# Altium footprint library MR26.PCBLIB: 50 footprints (part 1 of 4)
Each footprint in its own frame and in the unit in brackets; x right, y up, seen from the top. Pads: shape width x height; smd on the part's side, far side on the other; paste and mask are expansions set on the pad; w line width, h text height; cw(c..) or ccw(c..) is an arc to the next point about the centre after c.
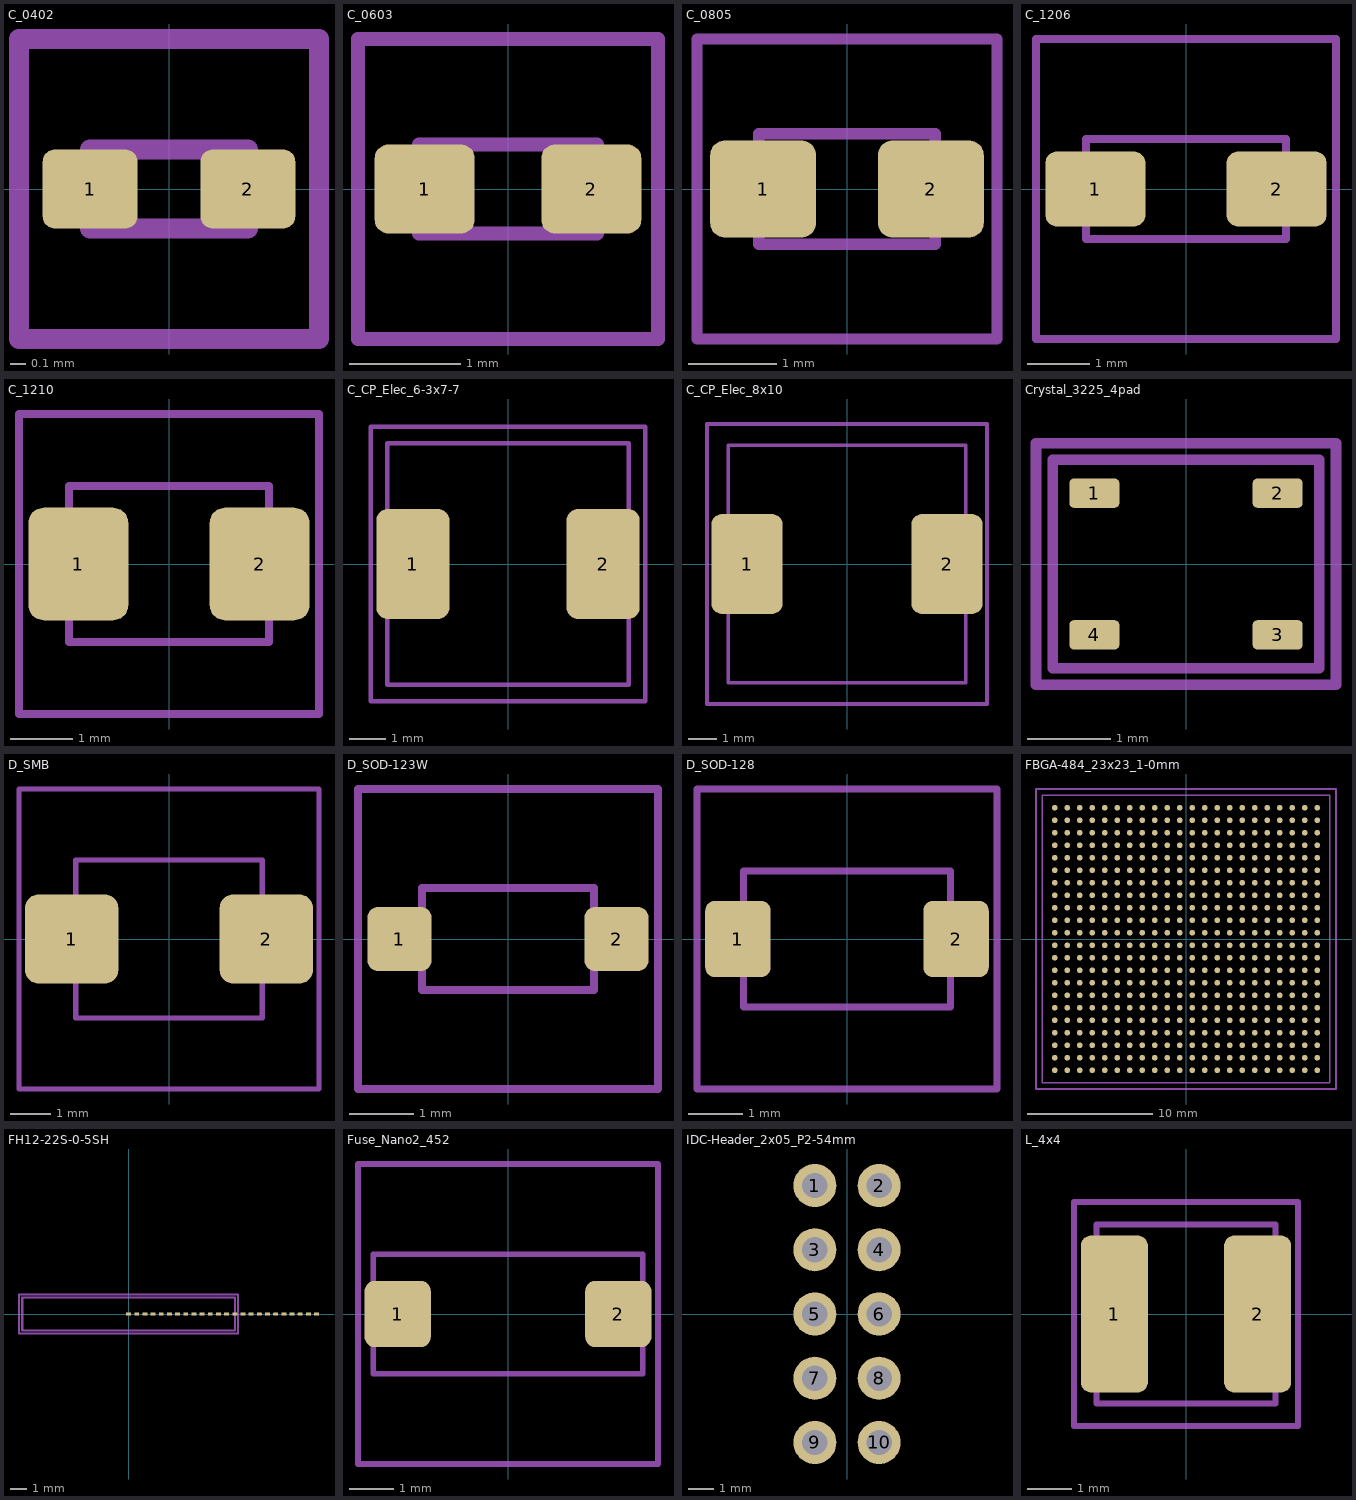
[diagram p0: the footprints below, top view; thin cyan lines are the x and y axes]

## C_0402 [mm]
pads (2):
  rrect30% 0.6x0.5 smd: 1(-0.5,0) 2(0.5,0)
tDocu:
  lines w0.127: -0.95,-0.95 0.95,-0.95 0.95,0.95 -0.95,0.95 -0.95,-0.95 ; -0.5,-0.25 0.5,-0.25 0.5,0.25 -0.5,0.25 -0.5,-0.25

## C_0603 [mil]
pads (2):
  rrect30% 35.43x31.5 smd: 1(-29.53,0) 2(29.53,0)
tDocu:
  lines w5: -53.15,-53.15 53.15,-53.15 53.15,53.15 -53.15,53.15 -53.15,-53.15 ; -31.5,-15.75 31.5,-15.75 31.5,15.75 -31.5,15.75 -31.5,-15.75

## C_0805 [mm]
pads (2):
  rrect30% 1.2x1.1 smd: 1(-0.95,0) 2(0.95,0)
tDocu:
  lines w0.127: -1.7,-1.7 1.7,-1.7 1.7,1.7 -1.7,1.7 -1.7,-1.7 ; -1,-0.625 1,-0.625 1,0.625 -1,0.625 -1,-0.625

## C_1206 [mm]
pads (2):
  rrect30% 1.6x1.2 smd: 1(-1.45,0) 2(1.45,0)
tDocu:
  lines w0.127: -2.4,-2.4 2.4,-2.4 2.4,2.4 -2.4,2.4 -2.4,-2.4 ; -1.6,-0.8 1.6,-0.8 1.6,0.8 -1.6,0.8 -1.6,-0.8

## C_1210 [mm]
pads (2):
  rrect30% 1.6x1.8 smd: 1(-1.45,0) 2(1.45,0)
tDocu:
  lines w0.127: -2.4,-2.4 2.4,-2.4 2.4,2.4 -2.4,2.4 -2.4,-2.4 ; -1.6,-1.25 1.6,-1.25 1.6,1.25 -1.6,1.25 -1.6,-1.25

## C_CP_Elec_6-3x7-7 [mm]
pads (2):
  rrect30% 2x3 smd: 1(-2.6,0) 2(2.6,0)
tDocu:
  lines w0.127: -3.75,-3.75 3.75,-3.75 3.75,3.75 -3.75,3.75 -3.75,-3.75 ; -3.3,-3.3 3.3,-3.3 3.3,3.3 -3.3,3.3 -3.3,-3.3

## C_CP_Elec_8x10 [mm]
pads (2):
  rrect30% 2.5x3.5 smd: 1(-3.5,0) 2(3.5,0)
tDocu:
  lines w0.127: -4.9,-4.9 4.9,-4.9 4.9,4.9 -4.9,4.9 -4.9,-4.9 ; -4.15,-4.15 4.15,-4.15 4.15,4.15 -4.15,4.15 -4.15,-4.15

## Crystal_3225_4pad [mm]
pads (4):
  rrect30% 0.6x0.35 smd: 1(-1.1,0.85) 2(1.1,0.85) 3(1.1,-0.85) 4(-1.1,-0.85)
tDocu:
  lines w0.127: -1.8,-1.45 1.8,-1.45 1.8,1.45 -1.8,1.45 -1.8,-1.45 ; -1.6,-1.25 1.6,-1.25 1.6,1.25 -1.6,1.25 -1.6,-1.25

## D_SMB [mm]
pads (2):
  rrect30% 2.3x2.2 smd: 1(-2.4,0) 2(2.4,0)
tDocu:
  lines w0.127: -3.7,-3.7 3.7,-3.7 3.7,3.7 -3.7,3.7 -3.7,-3.7 ; -2.3,-1.95 2.3,-1.95 2.3,1.95 -2.3,1.95 -2.3,-1.95

## D_SOD-123W [mm]
pads (2):
  rrect30% 1x1 smd: 1(-1.7,0) 2(1.7,0)
tDocu:
  lines w0.127: -2.35,-2.35 2.35,-2.35 2.35,2.35 -2.35,2.35 -2.35,-2.35 ; -1.35,-0.8 1.35,-0.8 1.35,0.8 -1.35,0.8 -1.35,-0.8

## D_SOD-128 [mm]
pads (2):
  rrect30% 1.2x1.4 smd: 1(-2,0) 2(2,0)
tDocu:
  lines w0.127: -2.75,-2.75 2.75,-2.75 2.75,2.75 -2.75,2.75 -2.75,-2.75 ; -1.9,-1.25 1.9,-1.25 1.9,1.25 -1.9,1.25 -1.9,-1.25

## FBGA-484_23x23_1-0mm [mm]
pads (484):
  rrect100% 0.45x0.45 smd: A1(-10.5,-10.5) A2(-9.5,-10.5) A3(-8.5,-10.5) A4(-7.5,-10.5) A5(-6.5,-10.5) A6(-5.5,-10.5) A7(-4.5,-10.5) A8(-3.5,-10.5) A9(-2.5,-10.5) A10(-1.5,-10.5) A11(-0.5,-10.5) A12(0.5,-10.5) A13(1.5,-10.5) A14(2.5,-10.5) A15(3.5,-10.5) A16(4.5,-10.5) A17(5.5,-10.5) A18(6.5,-10.5) A19(7.5,-10.5) A20(8.5,-10.5) A21(9.5,-10.5) A22(10.5,-10.5) AA1(-10.5,9.5) AA2(-9.5,9.5) AA3(-8.5,9.5) AA4(-7.5,9.5) AA5(-6.5,9.5) AA6(-5.5,9.5) AA7(-4.5,9.5) AA8(-3.5,9.5) AA9(-2.5,9.5) AA10(-1.5,9.5) AA11(-0.5,9.5) AA12(0.5,9.5) AA13(1.5,9.5) AA14(2.5,9.5) AA15(3.5,9.5) AA16(4.5,9.5) AA17(5.5,9.5) AA18(6.5,9.5) AA19(7.5,9.5) AA20(8.5,9.5) AA21(9.5,9.5) AA22(10.5,9.5) AB1(-10.5,10.5) AB2(-9.5,10.5) AB3(-8.5,10.5) AB4(-7.5,10.5) AB5(-6.5,10.5) AB6(-5.5,10.5) AB7(-4.5,10.5) AB8(-3.5,10.5) AB9(-2.5,10.5) AB10(-1.5,10.5) AB11(-0.5,10.5) AB12(0.5,10.5) AB13(1.5,10.5) AB14(2.5,10.5) AB15(3.5,10.5) AB16(4.5,10.5) AB17(5.5,10.5) AB18(6.5,10.5) AB19(7.5,10.5) AB20(8.5,10.5) AB21(9.5,10.5) AB22(10.5,10.5) B1(-10.5,-9.5) B2(-9.5,-9.5) B3(-8.5,-9.5) B4(-7.5,-9.5) B5(-6.5,-9.5) B6(-5.5,-9.5) B7(-4.5,-9.5) B8(-3.5,-9.5) B9(-2.5,-9.5) B10(-1.5,-9.5) B11(-0.5,-9.5) B12(0.5,-9.5) B13(1.5,-9.5) B14(2.5,-9.5) B15(3.5,-9.5) B16(4.5,-9.5) B17(5.5,-9.5) B18(6.5,-9.5) B19(7.5,-9.5) B20(8.5,-9.5) B21(9.5,-9.5) B22(10.5,-9.5) C1(-10.5,-8.5) C2(-9.5,-8.5) C3(-8.5,-8.5) C4(-7.5,-8.5) C5(-6.5,-8.5) C6(-5.5,-8.5) C7(-4.5,-8.5) C8(-3.5,-8.5) C9(-2.5,-8.5) C10(-1.5,-8.5) C11(-0.5,-8.5) C12(0.5,-8.5) C13(1.5,-8.5) C14(2.5,-8.5) C15(3.5,-8.5) C16(4.5,-8.5) C17(5.5,-8.5) C18(6.5,-8.5) C19(7.5,-8.5) C20(8.5,-8.5) C21(9.5,-8.5) C22(10.5,-8.5) D1(-10.5,-7.5) D2(-9.5,-7.5) D3(-8.5,-7.5) D4(-7.5,-7.5) D5(-6.5,-7.5) D6(-5.5,-7.5) D7(-4.5,-7.5) D8(-3.5,-7.5) D9(-2.5,-7.5) D10(-1.5,-7.5) D11(-0.5,-7.5) D12(0.5,-7.5) D13(1.5,-7.5) D14(2.5,-7.5) D15(3.5,-7.5) D16(4.5,-7.5) D17(5.5,-7.5) D18(6.5,-7.5) D19(7.5,-7.5) D20(8.5,-7.5) D21(9.5,-7.5) D22(10.5,-7.5) E1(-10.5,-6.5) E2(-9.5,-6.5) E3(-8.5,-6.5) E4(-7.5,-6.5) E5(-6.5,-6.5) E6(-5.5,-6.5) E7(-4.5,-6.5) E8(-3.5,-6.5) E9(-2.5,-6.5) E10(-1.5,-6.5) E11(-0.5,-6.5) E12(0.5,-6.5) E13(1.5,-6.5) E14(2.5,-6.5) E15(3.5,-6.5) E16(4.5,-6.5) E17(5.5,-6.5) E18(6.5,-6.5) E19(7.5,-6.5) E20(8.5,-6.5) E21(9.5,-6.5) E22(10.5,-6.5) F1(-10.5,-5.5) F2(-9.5,-5.5) F3(-8.5,-5.5) F4(-7.5,-5.5) F5(-6.5,-5.5) F6(-5.5,-5.5) F7(-4.5,-5.5) F8(-3.5,-5.5) F9(-2.5,-5.5) F10(-1.5,-5.5) F11(-0.5,-5.5) F12(0.5,-5.5) F13(1.5,-5.5) F14(2.5,-5.5) F15(3.5,-5.5) F16(4.5,-5.5) F17(5.5,-5.5) F18(6.5,-5.5) F19(7.5,-5.5) F20(8.5,-5.5) F21(9.5,-5.5) F22(10.5,-5.5) G1(-10.5,-4.5) G2(-9.5,-4.5) G3(-8.5,-4.5) G4(-7.5,-4.5) G5(-6.5,-4.5) G6(-5.5,-4.5) G7(-4.5,-4.5) G8(-3.5,-4.5) G9(-2.5,-4.5) G10(-1.5,-4.5) G11(-0.5,-4.5) G12(0.5,-4.5) G13(1.5,-4.5) G14(2.5,-4.5) G15(3.5,-4.5) G16(4.5,-4.5) G17(5.5,-4.5) G18(6.5,-4.5) G19(7.5,-4.5) G20(8.5,-4.5) G21(9.5,-4.5) G22(10.5,-4.5) H1(-10.5,-3.5) H2(-9.5,-3.5) H3(-8.5,-3.5) H4(-7.5,-3.5) H5(-6.5,-3.5) H6(-5.5,-3.5) H7(-4.5,-3.5) H8(-3.5,-3.5) H9(-2.5,-3.5) H10(-1.5,-3.5) H11(-0.5,-3.5) H12(0.5,-3.5) H13(1.5,-3.5) H14(2.5,-3.5) H15(3.5,-3.5) H16(4.5,-3.5) H17(5.5,-3.5) H18(6.5,-3.5) H19(7.5,-3.5) H20(8.5,-3.5) H21(9.5,-3.5) H22(10.5,-3.5) J1(-10.5,-2.5) J2(-9.5,-2.5) J3(-8.5,-2.5) J4(-7.5,-2.5) J5(-6.5,-2.5) J6(-5.5,-2.5) J7(-4.5,-2.5) J8(-3.5,-2.5) J9(-2.5,-2.5) J10(-1.5,-2.5) J11(-0.5,-2.5) J12(0.5,-2.5) J13(1.5,-2.5) J14(2.5,-2.5) J15(3.5,-2.5) J16(4.5,-2.5) J17(5.5,-2.5) J18(6.5,-2.5) J19(7.5,-2.5) J20(8.5,-2.5) J21(9.5,-2.5) J22(10.5,-2.5) K1(-10.5,-1.5) K2(-9.5,-1.5) K3(-8.5,-1.5) K4(-7.5,-1.5) K5(-6.5,-1.5) K6(-5.5,-1.5) K7(-4.5,-1.5) K8(-3.5,-1.5) K9(-2.5,-1.5) K10(-1.5,-1.5) K11(-0.5,-1.5) K12(0.5,-1.5) K13(1.5,-1.5) K14(2.5,-1.5) K15(3.5,-1.5) K16(4.5,-1.5) K17(5.5,-1.5) K18(6.5,-1.5) K19(7.5,-1.5) K20(8.5,-1.5) K21(9.5,-1.5) K22(10.5,-1.5) L1(-10.5,-0.5) L2(-9.5,-0.5) L3(-8.5,-0.5) L4(-7.5,-0.5) L5(-6.5,-0.5) L6(-5.5,-0.5) L7(-4.5,-0.5) L8(-3.5,-0.5) L9(-2.5,-0.5) L10(-1.5,-0.5) L11(-0.5,-0.5) L12(0.5,-0.5) L13(1.5,-0.5) L14(2.5,-0.5) L15(3.5,-0.5) L16(4.5,-0.5) L17(5.5,-0.5) L18(6.5,-0.5) L19(7.5,-0.5) L20(8.5,-0.5) L21(9.5,-0.5) L22(10.5,-0.5) M1(-10.5,0.5) M2(-9.5,0.5) M3(-8.5,0.5) M4(-7.5,0.5) M5(-6.5,0.5) M6(-5.5,0.5) M7(-4.5,0.5) M8(-3.5,0.5) M9(-2.5,0.5) M10(-1.5,0.5) M11(-0.5,0.5) M12(0.5,0.5) M13(1.5,0.5) M14(2.5,0.5) M15(3.5,0.5) M16(4.5,0.5) M17(5.5,0.5) M18(6.5,0.5) M19(7.5,0.5) M20(8.5,0.5) M21(9.5,0.5) M22(10.5,0.5) N1(-10.5,1.5) N2(-9.5,1.5) N3(-8.5,1.5) N4(-7.5,1.5) N5(-6.5,1.5) N6(-5.5,1.5) N7(-4.5,1.5) N8(-3.5,1.5) N9(-2.5,1.5) N10(-1.5,1.5) N11(-0.5,1.5) N12(0.5,1.5) N13(1.5,1.5) N14(2.5,1.5) N15(3.5,1.5) N16(4.5,1.5) N17(5.5,1.5) N18(6.5,1.5) N19(7.5,1.5) N20(8.5,1.5) N21(9.5,1.5) N22(10.5,1.5) P1(-10.5,2.5) P2(-9.5,2.5) P3(-8.5,2.5) P4(-7.5,2.5) P5(-6.5,2.5) P6(-5.5,2.5) P7(-4.5,2.5) P8(-3.5,2.5) P9(-2.5,2.5) P10(-1.5,2.5) P11(-0.5,2.5) P12(0.5,2.5) P13(1.5,2.5) P14(2.5,2.5) P15(3.5,2.5) P16(4.5,2.5) P17(5.5,2.5) P18(6.5,2.5) P19(7.5,2.5) P20(8.5,2.5) P21(9.5,2.5) P22(10.5,2.5) R1(-10.5,3.5) R2(-9.5,3.5) R3(-8.5,3.5) R4(-7.5,3.5) R5(-6.5,3.5) R6(-5.5,3.5) R7(-4.5,3.5) R8(-3.5,3.5) R9(-2.5,3.5) R10(-1.5,3.5) R11(-0.5,3.5) R12(0.5,3.5) R13(1.5,3.5) R14(2.5,3.5) R15(3.5,3.5) R16(4.5,3.5) R17(5.5,3.5) R18(6.5,3.5) R19(7.5,3.5) R20(8.5,3.5) R21(9.5,3.5) R22(10.5,3.5) T1(-10.5,4.5) T2(-9.5,4.5) T3(-8.5,4.5) T4(-7.5,4.5) T5(-6.5,4.5) T6(-5.5,4.5) T7(-4.5,4.5) T8(-3.5,4.5) T9(-2.5,4.5) T10(-1.5,4.5) T11(-0.5,4.5) T12(0.5,4.5) T13(1.5,4.5) T14(2.5,4.5) T15(3.5,4.5) T16(4.5,4.5) T17(5.5,4.5) T18(6.5,4.5) T19(7.5,4.5) T20(8.5,4.5) T21(9.5,4.5) T22(10.5,4.5) U1(-10.5,5.5) U2(-9.5,5.5) U3(-8.5,5.5) U4(-7.5,5.5) U5(-6.5,5.5) U6(-5.5,5.5) U7(-4.5,5.5) U8(-3.5,5.5) U9(-2.5,5.5) U10(-1.5,5.5) U11(-0.5,5.5) U12(0.5,5.5) U13(1.5,5.5) U14(2.5,5.5) U15(3.5,5.5) U16(4.5,5.5) U17(5.5,5.5) U18(6.5,5.5) U19(7.5,5.5) U20(8.5,5.5) U21(9.5,5.5) U22(10.5,5.5) V1(-10.5,6.5) V2(-9.5,6.5) V3(-8.5,6.5) V4(-7.5,6.5) V5(-6.5,6.5) V6(-5.5,6.5) V7(-4.5,6.5) V8(-3.5,6.5) V9(-2.5,6.5) V10(-1.5,6.5) V11(-0.5,6.5) V12(0.5,6.5) V13(1.5,6.5) V14(2.5,6.5) V15(3.5,6.5) V16(4.5,6.5) V17(5.5,6.5) V18(6.5,6.5) V19(7.5,6.5) V20(8.5,6.5) V21(9.5,6.5) V22(10.5,6.5) W1(-10.5,7.5) W2(-9.5,7.5) W3(-8.5,7.5) W4(-7.5,7.5) W5(-6.5,7.5) W6(-5.5,7.5) W7(-4.5,7.5) W8(-3.5,7.5) W9(-2.5,7.5) W10(-1.5,7.5) W11(-0.5,7.5) W12(0.5,7.5) W13(1.5,7.5) W14(2.5,7.5) W15(3.5,7.5) W16(4.5,7.5) W17(5.5,7.5) W18(6.5,7.5) W19(7.5,7.5) W20(8.5,7.5) W21(9.5,7.5) W22(10.5,7.5) Y1(-10.5,8.5) Y2(-9.5,8.5) Y3(-8.5,8.5) Y4(-7.5,8.5) Y5(-6.5,8.5) Y6(-5.5,8.5) Y7(-4.5,8.5) Y8(-3.5,8.5) Y9(-2.5,8.5) Y10(-1.5,8.5) Y11(-0.5,8.5) Y12(0.5,8.5) Y13(1.5,8.5) Y14(2.5,8.5) Y15(3.5,8.5) Y16(4.5,8.5) Y17(5.5,8.5) Y18(6.5,8.5) Y19(7.5,8.5) Y20(8.5,8.5) Y21(9.5,8.5) Y22(10.5,8.5)
tDocu:
  lines w0.127: -12,-12 12,-12 12,12 -12,12 -12,-12 ; -11.5,-11.5 11.5,-11.5 11.5,11.5 -11.5,11.5 -11.5,-11.5

## FH12-22S-0-5SH [mm]
pads (24):
  rrect30% 0.3x0.175 smd: 1(0,0) 2(0.5,0) 3(1,0) 4(1.5,0) 5(2,0) 6(2.5,0) 7(3,0) 8(3.5,0) 9(4,0) 10(4.5,0) 11(5,0) 12(6,0) 13(6.5,0) 14(7,0) 15(7.5,0) 16(8,0) 17(8.5,0) 18(9,0) 19(9.5,0) 20(10,0) 21(10.5,0) 22(11,0) MP1(5.5,0) MP2(11.5,0)
tDocu:
  lines w0.127: -6.7,-1.2 6.7,-1.2 6.7,1.2 -6.7,1.2 -6.7,-1.2 ; -6.5,-1 6.5,-1 6.5,1 -6.5,1 -6.5,-1

## Fuse_Nano2_452 [mm]
pads (2):
  rrect30% 1.5x1.5 smd: 1(-2.5,0) 2(2.5,0)
tDocu:
  lines w0.127: -3.4,-3.4 3.4,-3.4 3.4,3.4 -3.4,3.4 -3.4,-3.4 ; -3.05,-1.35 3.05,-1.35 3.05,1.35 -3.05,1.35 -3.05,-1.35

## IDC-Header_2x05_P2-54mm [mm]
pads (10):
  round 1.7 hole 1: 1(-1.27,5.08) 2(1.27,5.08) 3(-1.27,2.54) 4(1.27,2.54) 5(-1.27,0) 6(1.27,0) 7(-1.27,-2.54) 8(1.27,-2.54) 9(-1.27,-5.08) 10(1.27,-5.08)

## L_4x4 [mm]
pads (2):
  rrect30% 1.5x3.5 smd: 1(-1.6,0) 2(1.6,0)
tDocu:
  lines w0.127: -2.5,-2.5 2.5,-2.5 2.5,2.5 -2.5,2.5 -2.5,-2.5 ; -2,-2 2,-2 2,2 -2,2 -2,-2